# EAGLE library part TANGNANO-20K (library tang)
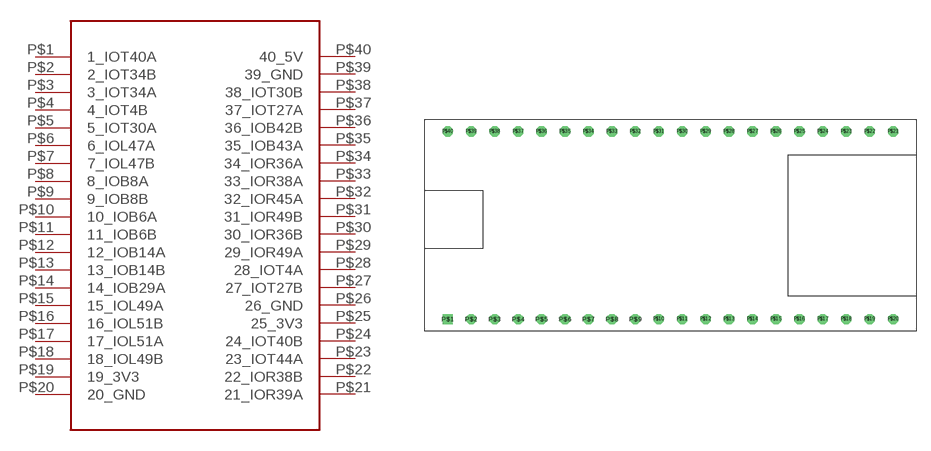
[diagram p0: symbol with the pads of TANGNANO_20K; footprint TANGNANO_20K]

Designator prefix -

## TANGNANO-20K  [TANGNANO_20K]
P$1  1_IOT40A
P$2  2_IOT34B
P$3  3_IOT34A
P$4  4_IOT4B
P$5  5_IOT30A
P$6  6_IOL47A
P$7  7_IOL47B
P$8  8_IOB8A
P$9  9_IOB8B
P$10  10_IOB6A
P$11  11_IOB6B
P$12  12_IOB14A
P$13  13_IOB14B
P$14  14_IOB29A
P$15  15_IOL49A
P$16  16_IOL51B
P$17  17_IOL51A
P$18  18_IOL49B
P$19  19_3V3
P$20  20_GND
P$21  21_IOR39A
P$22  22_IOR38B
P$23  23_IOT44A
P$24  24_IOT40B
P$25  25_3V3
P$26  26_GND
P$27  27_IOT27B
P$28  28_IOT4A
P$29  29_IOR49A
P$30  30_IOR36B
P$31  31_IOR49B
P$32  32_IOR45A
P$33  33_IOR38A
P$34  34_IOR36A
P$35  35_IOB43A
P$36  36_IOB42B
P$37  37_IOT27A
P$38  38_IOT30B
P$39  39_GND
P$40  40_5V

## Footprint TANGNANO_20K (pad centres in mm)
drill 0.6 square: P$1 -25.4,-10.16
drill 0.6 octagon: P$2 -22.86,-10.16; P$3 -20.32,-10.16; P$4 -17.78,-10.16; P$5 -15.24,-10.16; P$6 -12.7,-10.16; P$7 -10.16,-10.16; P$8 -7.62,-10.16; P$9 -5.08,-10.16; P$10 -2.54,-10.16; P$11 0,-10.16; P$12 2.54,-10.16; P$13 5.08,-10.16; P$14 7.62,-10.16; P$15 10.16,-10.16; P$16 12.7,-10.16; P$17 15.24,-10.16; P$18 17.78,-10.16; P$19 20.32,-10.16; P$20 22.86,-10.16; P$21 22.86,10.16; P$22 20.32,10.16; P$23 17.78,10.16; P$24 15.24,10.16; P$25 12.7,10.16; P$26 10.16,10.16; P$27 7.62,10.16; P$28 5.08,10.16; P$29 2.54,10.16; P$30 0,10.16; P$31 -2.54,10.16; P$32 -5.08,10.16; P$33 -7.62,10.16; P$34 -10.16,10.16; P$35 -12.7,10.16; P$36 -15.24,10.16; P$37 -17.78,10.16; P$38 -20.32,10.16; P$39 -22.86,10.16; P$40 -25.4,10.16